# Altium footprint library 海关全向控制器主控板V4.PcbLib: 27 footprints (part 2 of 2)
Each footprint in its own frame and in the unit in brackets; x right, y up, seen from the top. Pads: shape width x height; smd on the part's side, far side on the other; paste and mask are expansions set on the pad; w line width, h text height; cw(c..) or ccw(c..) is an arc to the next point about the centre after c.
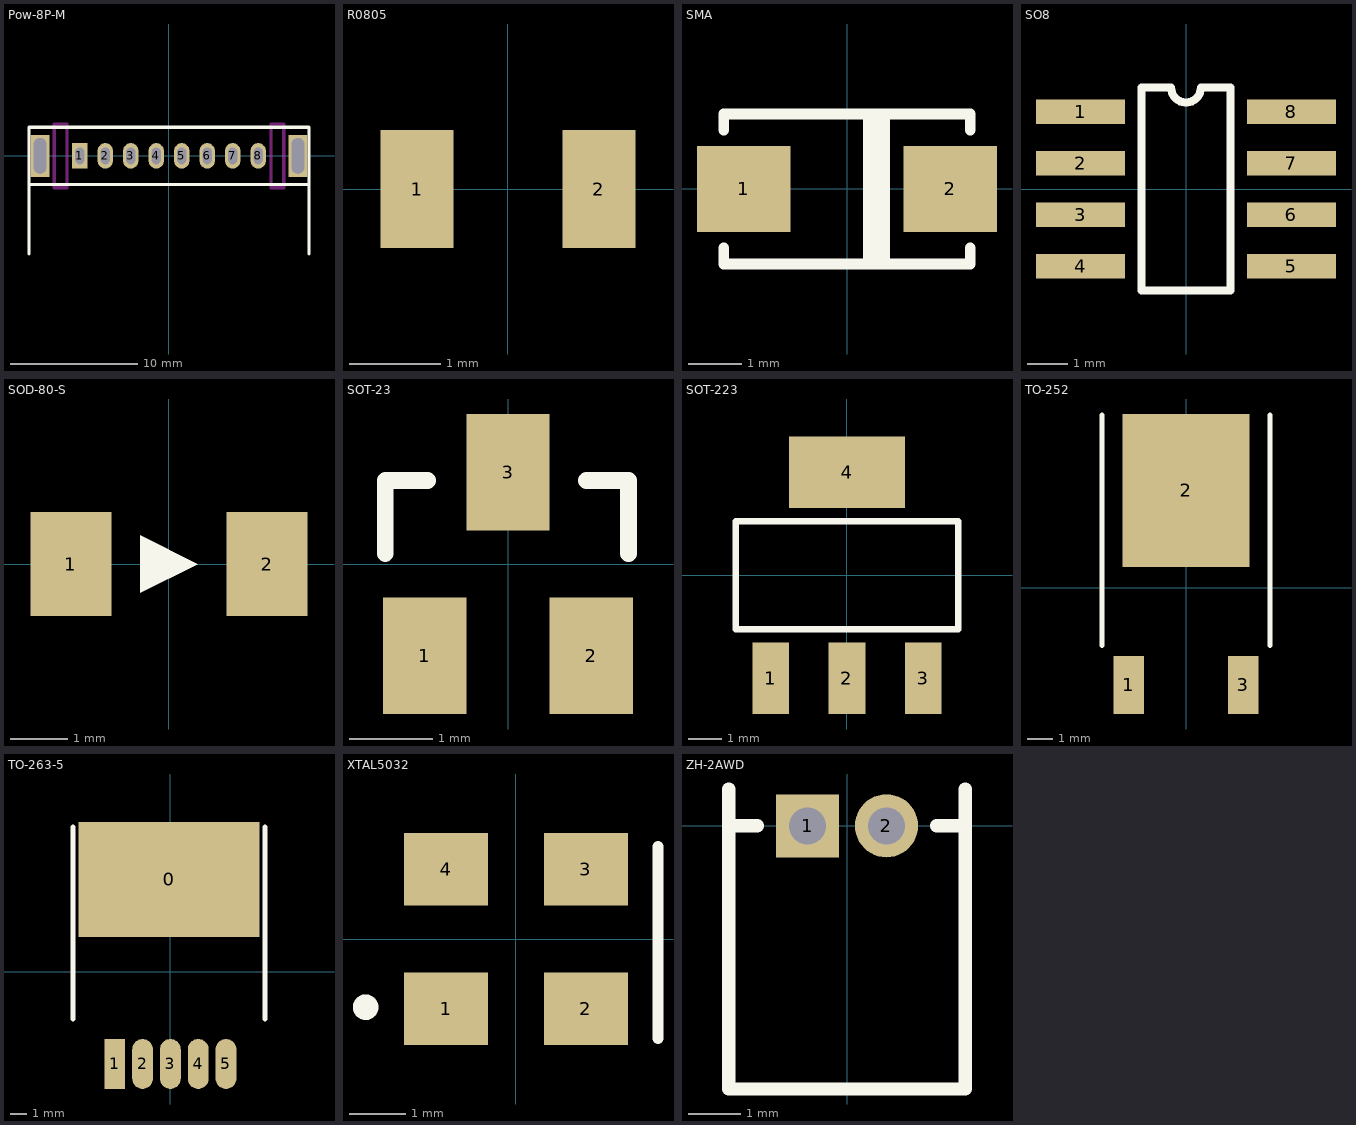
[diagram p1: the footprints below, top view; thin cyan lines are the x and y axes]

## Pow-8P-M [mm] "笔记本电源接口8P公座"
height 6.8
pads (10):
  rect 1.2x2 hole 0.7 slot 1.3 at 90 deg: 1(-7,0)
  oval 1.2x2 hole 0.7 slot 1.3 at 90 deg: 2(-5,0) 3(-3,0) 4(-1,0) 5(1,0) 6(3,0) 7(5,0) 8(7,0)
  rect 1.5x3.3 hole 1 slot 2.8 at 90 deg: ""(-10.125,0) ""(10.125,0)
Top Overlay:
  lines w0.254: -11,-7.7 -11,2.25 11,2.25 11,-7.7 ; -11,-2.25 11,-2.25
Keep-Out Layer:
  lines w0.254: -9,-2.5 -8,-2.5 -8,2.5 -9,2.5 -9,-2.5 ; 8,-2.5 8,2.5 9,2.5 9,-2.5 8,-2.5
3D body: height 7, standoff -2, extent -10.775,-8 10.775,2

## R0805 [mm]
height 0.55
pads (2):
  rect 0.8x1.3 smd: 1(-1,0) 2(1,0)
3D body: height 0.47, standoff 0, extent -1,-0.626 1,0.626

## SMA [mm]
height 2.2
pads (2):
  rect 1.75x1.6 smd: 1(-1.925,0) 2(1.925,0)
Top Overlay:
  rectangle: 0.3,-1.5 0.806,1.5
  lines w0.203: -2.3,-1.1 -2.3,-1.4 2.3,-1.4 2.3,-1.1 ; -2.3,1.1 -2.3,1.4 2.3,1.4 2.3,1.1
3D body: height 2.15, standoff 0, extent -2.6,-1.325 2.6,1.325

## SO8 [mm]
height 1.55
pads (8):
  rect 2.2x0.6 smd: 1(-2.6,1.905) 2(-2.6,0.635) 3(-2.6,-0.635) 4(-2.6,-1.905) 5(2.6,-1.905) 6(2.6,-0.635) 7(2.6,0.635) 8(2.6,1.905)
Top Overlay:
  lines w0.2: -1.1,-2.5 -1.1,2.5 -0.367,2.5 ccw(c0,2.5) 0.367,2.5 1.1,2.5 1.1,-2.5 -1.1,-2.5
3D body: height 1.4, standoff -0.05, extent -2.972,-2.464 2.972,2.438

## SOD-80-S [mm]
pads (2):
  rect 1.4x1.8 smd: 1(-1.7,0) 2(1.7,0)
Top Overlay:
  region: -0.5,0.5 -0.5,-0.5 0.5,0
3D body: height 1.6, standoff 0, extent -1.85,-0.787 1.85,0.813

## SOT-23 [mm]
pads (3):
  rect 1x1.4 smd: 1(-1,-1.1) 2(1,-1.1) 3(0,1.1)
Top Overlay:
  lines w0.203: -1.473,0.127 -1.473,1 -0.965,1 ; 0.94,1 1.448,1 1.448,0.127
3D body: height 1.3, standoff 0, extent -1.45,-1.4 1.45,1.4

## SOT-223 [mm]
height 1.8
pads (4):
  rect 1.1x2.15 smd: 1(-2.3,-3.1) 2(0,-3.1) 3(2.3,-3.1)
  rect 3.5x2.15 smd: 4(0,3.1)
Top Overlay:
  lines w0.2: -3.35,-1.625 -3.35,1.625 3.35,1.625 3.35,-1.625 -3.35,-1.625
3D body: height 1.8, standoff 0, extent -3.15,-3.3 3.15,3.3

## TO-252 [mm]
height 2.4
pads (3):
  rect 1.2x2.28 smd: 1(-2.25,-3.816) 3(2.25,-3.816)
  rect 5x6 smd: 2(0,3.816)
Top Overlay:
  lines w0.203: -3.3,-2.274 -3.3,6.776 ; 3.3,-2.274 3.3,6.776
3D body: height 2.3, standoff 0, extent -3.25,-3.62 3.25,5.68

## TO-263-5 [mil]
pads (6):
  rect 433.07x275.59 smd: 0(-3.33,221.44)
  rect 50x120 smd: 1(-133.33,-221.44)
  oval 50x120 smd: 2(-66.67,-221.44) 3(0,-221.44) 4(66.67,-221.44) 5(133.33,-221.44)
Top Overlay:
  lines w12: -233.33,-113.56 -233.33,346.44 ; 226.67,-113.56 226.67,346.44
3D body: height 177.17, standoff 0, extent -204.26,-257.93 206.67,320.81

## XTAL5032 [mm]
height 1
pads (4):
  rect 1.5x1.3 smd: 1(-1.25,-1.25) 2(1.25,-1.25) 3(1.25,1.25) 4(-1.25,1.25)
Top Overlay:
  circle w0.203: c-2.688,-1.22 r0.127
  region: -2.688,-1.083 -2.591,-1.123 -2.551,-1.22 -2.591,-1.317 -2.688,-1.357 -2.785,-1.317 -2.825,-1.22 -2.785,-1.123
  lines w0.203: 2.54,-1.778 2.54,1.651
3D body: height 1.2, standoff 0, extent -2.5,-1.6 2.5,1.6

## ZH-2AWD [mm] "1.5mm，2P，卧插"
height 3.9
pads (2):
  rect 1.2x1.2 hole 0.7: 1(-0.75,0)
  round 1.2 hole 0.7: 2(0.75,0)
Top Overlay:
  lines w0.254: -2.25,0 -1.7,0 ; -2.25,0.7 -2.25,-5 2.25,-5 2.25,0.7 ; 1.7,0 2.25,0
3D body: height 3.95, standoff -2.85, extent -2.25,-5.05 2.25,0.65